# EAGLE library part SN74LVC1G3157-Q1 (library rfops)
SN74LVC1G3157-Q1 SPDT Analog Switch from TI
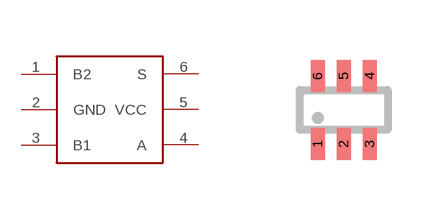
[diagram p9: symbol with the pads of SC70-6L; footprint SC70-6L]

Designator prefix IC

## SN74LVC1G3157-Q1  [SC70-6L]
1  B2  in
2  GND  pwr
3  B1  in
4  A  out
5  VCC  pwr
6  S  in

## Footprint SC70-6L (pad centres in mm)
SC-70 Package
smd 0.35 x 0.8: 1 -0.65,-0.85; 2 0,-0.85; 3 0.65,-0.85; 4 0.65,0.85; 5 0,0.85; 6 -0.65,0.85